# Altium schematic symbol library SCH - POWER - LINEAR VREG - TI TPS7B6933-Q1DBV.SchLib: 1 symbol
Pins are listed as number, name and electrical type; pins without a type are passive.

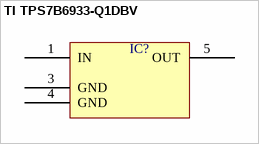
[diagram p0: symbol TI TPS7B6933-Q1DBV]

## TI TPS7B6933-Q1DBV
designator IC?  (value not drawn)
pins: 1 IN, 3 GND, 4 GND, 5 OUT